# Altium footprint library AltiumDesigner.PcbLib: 3 footprints
Each footprint in its own frame and in the unit in brackets; x right, y up, seen from the top. Pads: shape width x height; smd on the part's side, far side on the other; paste and mask are expansions set on the pad; w line width, h text height; cw(c..) or ccw(c..) is an arc to the next point about the centre after c.
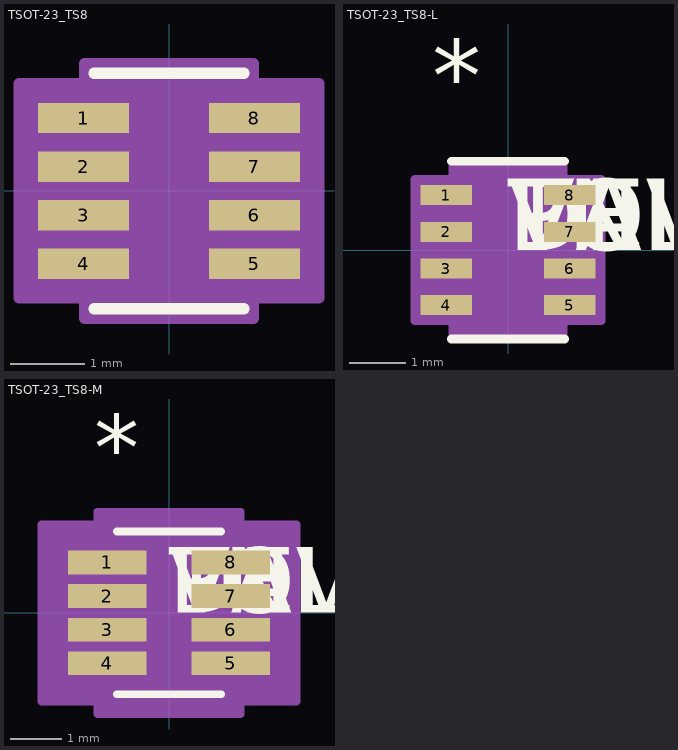
[diagram p0: the footprints below, top view; thin cyan lines are the x and y axes]

## TSOT-23_TS8 [mil]
pads (8):
  rect 48x16 smd: 1(-45,38.39) 2(-45,12.8) 3(-45,-12.8) 4(-45,-38.39) 5(45,-38.39) 6(45,-12.8) 7(45,12.8) 8(45,38.39)
Top Overlay:
  lines w6: -39.5,-62 39.5,-62 ; -39.5,62 39.5,62
Mechanical 13:
  lines w0: -12,57 ccw(c0,57) 12,57
Mechanical 15:
  region: -44.5,-56.39 -79,-56.39 -79,56.39 -44.5,56.39 -44.5,67 44.5,67 44.5,56.39 79,56.39 79,-56.39 44.5,-56.39 44.5,-67 -44.5,-67
  lines w6: -79,-56.39 -44.5,-56.39 -44.5,-67 44.5,-67 44.5,-56.39 79,-56.39 79,56.39 44.5,56.39 44.5,67 -44.5,67 -44.5,56.39 -79,56.39 -79,-56.39
3D body: height 10, standoff 0, extent 0,0 10,10

## TSOT-23_TS8-L [mil]
pads (8):
  rect 36x14 smd: 1(-43,38.39) 2(-43,12.8) 3(-43,-12.8) 4(-43,-38.39) 5(43,-38.39) 6(43,-12.8) 7(43,12.8) 8(43,38.39)
Top Overlay:
  lines w6: -39.5,-62 39.5,-62 ; -39.5,62 39.5,62
  text "*" at -53,97.39 h50
  text "PN" at 0,0 h50
  text "DEV" at 0,0 h50
  text "VAL" at 0,0 h50
  text "TOL" at 0,0 h50
Mechanical 13:
  lines w0: -12,57 ccw(c0,57) 12,57
  text "*" at -19.5,54 h50
  text "RefDes2" at 0,0 h50
Mechanical 15:
  region: -38.5,-49.39 -65,-49.39 -65,49.39 -38.5,49.39 -38.5,61 38.5,61 38.5,49.39 65,49.39 65,-49.39 38.5,-49.39 38.5,-61 -38.5,-61
  lines w6: -65,-49.39 -65,49.39 -38.5,49.39 -38.5,61 38.5,61 38.5,49.39 65,49.39 65,-49.39 38.5,-49.39 38.5,-61 -38.5,-61 -38.5,-49.39 -65,-49.39
3D body: height 10, standoff 0, extent 0,0 10,10

## TSOT-23_TS8-M [mil]
pads (8):
  rect 60x18 smd: 1(-47,38.39) 2(-47,12.8) 3(-47,-12.8) 4(-47,-38.39) 5(47,-38.39) 6(47,-12.8) 7(47,12.8) 8(47,38.39)
Top Overlay:
  lines w6: -39.5,-62 39.5,-62 ; -39.5,62 39.5,62
  text "*" at -57,101.39 h50
  text "PN" at 0,0 h50
  text "DEV" at 0,0 h50
  text "VAL" at 0,0 h50
  text "TOL" at 0,0 h50
Mechanical 13:
  lines w0: -12,57 ccw(c0,57) 12,57
  text "*" at -19.5,54 h50
  text "RefDes2" at 0,0 h50
Mechanical 15:
  region: -54.5,-67.39 -97,-67.39 -97,67.39 -54.5,67.39 -54.5,77 54.5,77 54.5,67.39 97,67.39 97,-67.39 54.5,-67.39 54.5,-77 -54.5,-77
  lines w6: -97,-67.39 -97,67.39 -54.5,67.39 -54.5,77 54.5,77 54.5,67.39 97,67.39 97,-67.39 54.5,-67.39 54.5,-77 -54.5,-77 -54.5,-67.39 -97,-67.39
3D body: height 10, standoff 0, extent 0,0 10,10